# Altium integrated library AC_DC.IntLib: 1 symbol
Pins are listed as number, name and electrical type; pins without a type are passive.

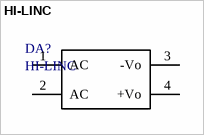
[diagram p0: symbol HI-LINC]

## HI-LINC
designator DA?
footprint HI_LINC
pins: 1 AC, 2 AC, 3 -Vo, 4 +Vo